# Altium schematic symbol library UltraZOhm_CarrierBoard.SCHLIB: 127 symbols (part 1 of 2)
Pins are listed as number, name and electrical type; pins without a type are passive.

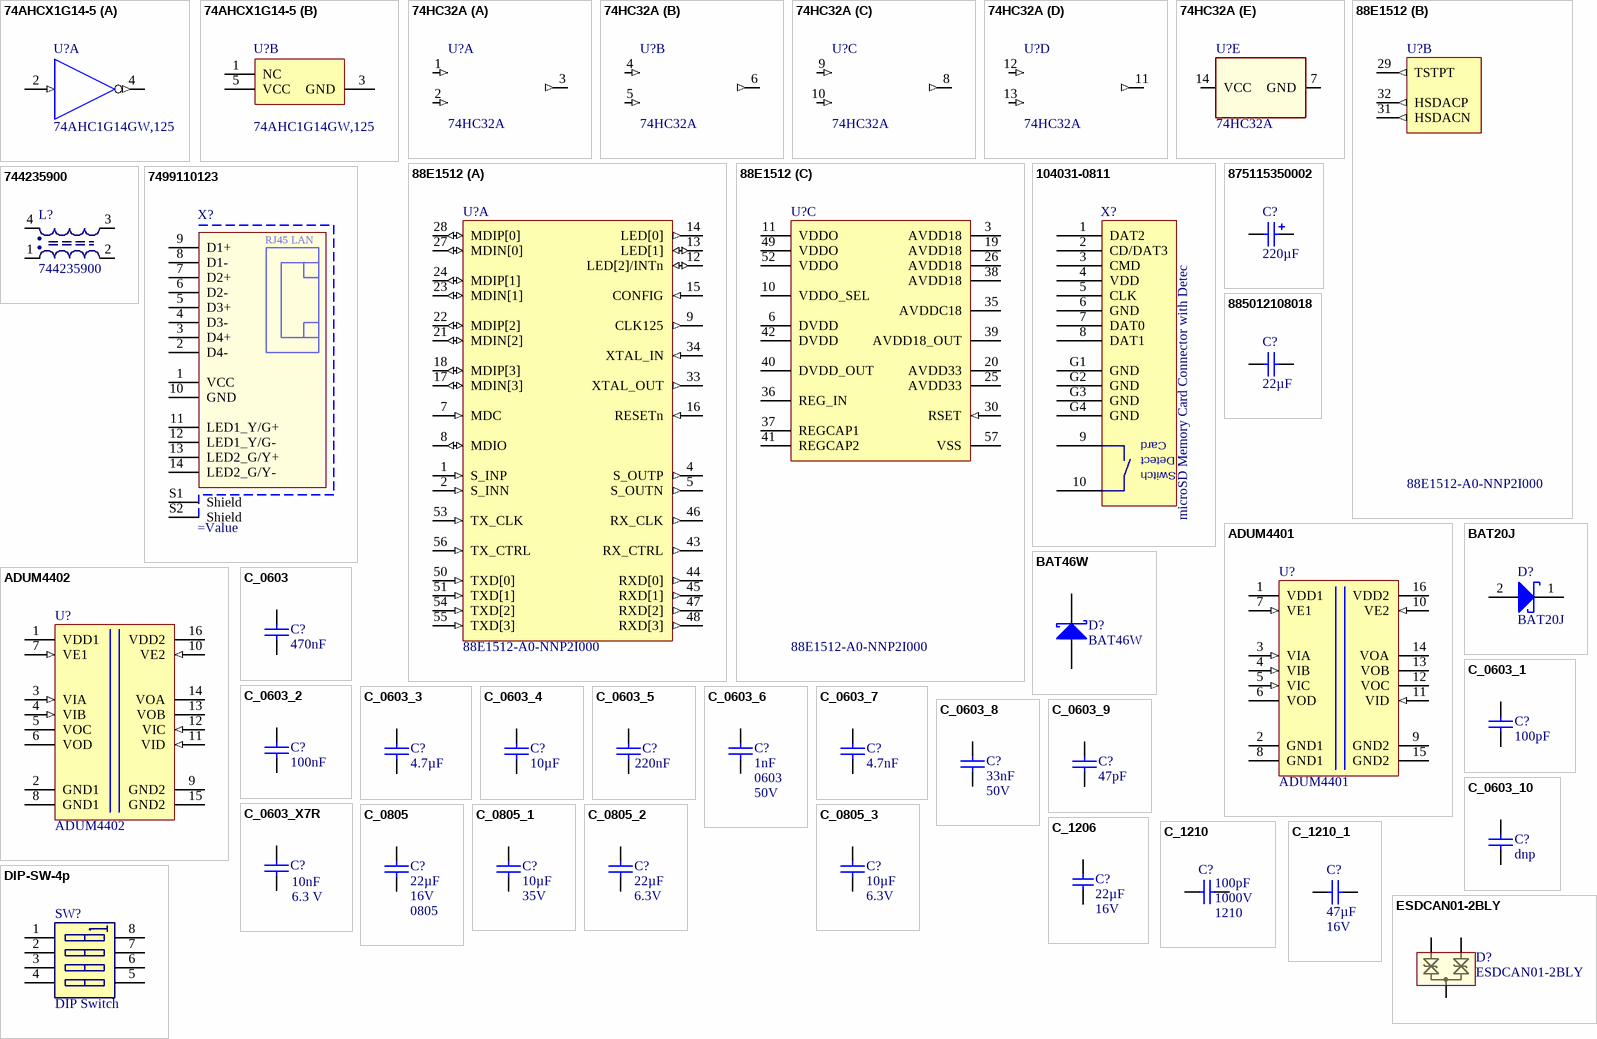
[diagram p0: symbols 74AHCX1G14-5 to ESDCAN01-2BLY]

## 74AHCX1G14-5
designator U?, comment 74AHC1G14GW,125
Inverting Schmitt trigger for 2 V to 5.5 V; MF: Nexperia; Created: 2018_09_06_AGeiger; Supplier 1: Digi-Key; Value: 74AHC1G14GW,125; Supplier Part Number 1: 1727-3149-2-ND; Supplier 2: Mouser; ComponentLink1URL: https://www.mouser.de/datasheet/2/916/74AHC_AHCT1G14-1319577.pdf; ComponentLink1Description: Datasheet; Supplier Part Number 2: 771-74AHC1G14GW-G; Supplier 3: Farnell; Supplier Part Number 3: 2336684; MPN: 74AHC1G14GW,125; Package: TSSOP-5
footprint NXP-SOT353-1_N (TSSOP, 5-Leads, Body 2.25x1.35mm, Pitch 0.65mm, IPC Medium Density)
part A pins: 2 A (in) "data input", 4 ~{Y} (out) "data output"
part B pins: 1 NC "not connected", 3 GND (power) "ground (0 V)", 5 VCC (power) "supply voltage"

## 74HC32A
designator U?
74HC32A Quad 2-input OR gate; MPN: NLV74HC32ADTR2G; MF: ON Semiconductor; Qualification: AEC-Q100; Value: 74HC32A; Created: 2018_11_15_AGeiger; Package: TSSOP-14; Supplier 1: Mouser; Supplier Part Number 1: 863-NLV74HC32ADTR2G; ComponentLink1Description: Datasheet; ComponentLink1URL: https://www.mouser.de/datasheet/2/308/MC74HC32A-D-96986.pdf; Supplier 2: Digi-Key; Supplier Part Number 2: NLV74HC32ADTR2GOSCT-ND
footprint TSSOP14
part A pins: 1 1A (in), 2 1B (in), 3 1Y (out)
part B pins: 4 2A (in), 5 2B (in), 6 2Y (out)
part C pins: 8 3Y (out), 9 3A (in), 10 3B (in)
part D pins: 11 4Y (out), 12 4A (in), 13 4B (in)
part E pins: 7 GND (power), 14 VCC (power)

## 88E1512
designator U?, comment 88E1512-A0-NNP2I000
Ethernet ICs Single-port EEE GE PHY w/SGMII in 56-pin QFN package Industrial Temp; MF: Marvell; Created: 2018_07_17_AGeiger; Package: QFN56; MPN: 88E1512-A0-NNP2I000; Supplier 1: Mouser; Supplier Part Number 1: 348-88E1512A0NNP2I00; ComponentLink1URL: https://www.mouser.de/datasheet/2/912/arvell-phys-transceivers-alaska-88e151x-datasheet--1360912.pdf; Value: 88E1512-A0-NNP2I000; ComponentLink1Description: Datasheet
footprint QFN50P800X800X100-57N
part A pins: 1 S_INP (in), 2 S_INN (in), 4 S_OUTP (out), 5 S_OUTN (out), 7 MDC (in), 8 MDIO (io), 9 CLK125 (out), 12 LED[2]/INTn (io), 13 LED[1] (io), 14 LED[0] (out), 15 CONFIG (in), 16 RESETn (in), 17 MDIN[3] (io), 18 MDIP[3] (io), 21 MDIN[2] (io), 22 MDIP[2] (io), 23 MDIN[1] (io), 24 MDIP[1] (io), 27 MDIN[0] (io), 28 MDIP[0] (io), 33 XTAL_OUT (out), 34 XTAL_IN (in), 43 RX_CTRL (out), 44 RXD[0] (out), 45 RXD[1] (out), 46 RX_CLK (out), 47 RXD[2] (out), 48 RXD[3] (out), 50 TXD[0] (in), 51 TXD[1] (in), 53 TX_CLK (in), 54 TXD[2] (in), 55 TXD[3] (in), 56 TX_CTRL (in)
part B pins: 29 TSTPT (out), 31 HSDACN (out), 32 HSDACP (out)
part C pins: 3 AVDD18 (power), 6 DVDD (power), 10 VDDO_SEL (power), 11 VDDO (power), 19 AVDD18 (power), 20 AVDD33 (power), 25 AVDD33 (power), 26 AVDD18 (power), 30 RSET (in), 35 AVDDC18 (power), 36 REG_IN (power), 37 REGCAP1, 38 AVDD18 (power), 39 AVDD18_OUT (power), 40 DVDD_OUT (power), 41 REGCAP2, 42 DVDD (power), 49 VDDO (power), 52 VDDO (power), 57 VSS (power)

## 104031-0811
designator X?, comment microSD Memory Card Connector with Detec
microSD Memory Card Connector with Detect Switch; MPN: 104031-0811; MF: Molex; Case: microSD; Value: microSD Memory Card Connector with Detec; ComponentLink1URL: https://www.mouser.de/datasheet/2/276/1040310811_MEMORY_CARD_SOCKET-153593.pdf; Supplier 1: Farnell; Supplier Part Number 1: 2466891; Supplier 2: Mouser; Supplier Part Number 2: 538-104031-0811; Supplier Part Number 3: WM6357CT-ND; Supplier 3: Digi-Key; Created: 2018_09_13_AGeiger; ComponentLink1Description: Datasheet
footprint 104031-0811
pins: 1 DAT2, 2 CD/DAT3, 3 CMD, 4 VDD, 5 CLK, 6 GND, 7 DAT0, 8 DAT1, 9 CDSW, 10 CDSW, G1 GND, G2 GND, G3 GND, G4 GND
text: Card; Detect; Switch

## 744235900
designator L?
SMD Shielded Coupled Inductor WE-CNSW, Z=90 Ohm; Impedance: 90 Ohm; MF: Wuerth Elektronik; ComponentLink1URL: http://www.we-online.com; ComponentLink1Description: Manufacturer URL; ComponentLink2Description: Datasheet; PackageReference: WE-CNSW 1812; ComponentLink2URL: http://katalog.we-online.de/pbs/datasheet/744235900.pdf; MPN: 744235900; Value: 744235900; Created: 2018_09_12_AGeiger; Supplier 1: Farnell; Supplier 2: Mouser; Supplier 3: Digi-Key; Supplier Part Number 1: 2249865; Supplier Part Number 2: 710-744235900; Supplier Part Number 3: 732-4223-1-ND
footprint WE-CNSW 1812 (SMD Line Filter, 4-Leads, Body 4.5x3.2mm)
pins: 1, 2, 3, 4

## 7499110123
designator X?
WE-RJ45 LAN Transformer, 10/100/1000 Base-T, THT, Port 1x1, Tab Vertical; MPN: 7499110123; MF: Wuerth Elektronik; PoE: non-PoE; LED (Left-Right): yellow/green-green/yellow; USB: No; Value: 7499110123; ComponentLink1Description: Manufacturer; ComponentLink1URL: http://www.we-online.de; ComponentLink2Description: Datasheet; ComponentLink2URL: http://katalog.we-online.de/pbs/datasheet/7499110123.pdf; Published Date: Dec. 2017; Tab Position: Vertical; Port Number: 1x1; Data Rate: 10/100/1000 Base-T; Operating Temperature: -40 to +85 degC; Mounting Technology: THT; Created: 2018_11_22_AGeiger; Package: RJ45; Supplier 1: Farnell; Supplier 2: Mouser; Supplier 3: Digi-Key; Supplier Part Number 1: 2356117; Supplier Part Number 2: 710-7499110123; Supplier Part Number 3: 732-4958-ND
footprint 7499110123 (LAN Transformer, body 23.6x16.6mm)
pins: 1 VCC, 2 D4-, 3 D4+, 4 D3-, 5 D3+, 6 D2-, 7 D2+, 8 D1-, 9 D1+, 10 GND, 11 LED1_Y/G+, 12 LED1_Y/G-, 13 LED2_G/Y+, 14 LED2_G/Y-, S1 Shield, S2 Shield
text: RJ45 LAN

## 875115350002
designator C?, comment 220µF
WCAP-PSHP Aluminum Polymer Capacitors, D8mm x L7.7mm, 220 uF, 16 VDC; MPN: 875115350002; MF: Wuerth Elektronik; Voltage: 16V; ComponentLink1Description: Manufacturer; ComponentLink1URL: http://www.we-online.de; ComponentLink2Description: Datasheet; ComponentLink2URL: http://katalog.we-online.de/pbs/datasheet/875115350002.pdf; Published Date: Dec. 2017; Size: D8mm x L7.7mm; Value: 220µF; Life Cycle: 2000 h; Operating Temperature: -55 to +105 degC; Created: 2018_11_13_AGeiger; Supplier 1: Farnell; Supplier Part Number 1: 2466695; Supplier 2: Mouser; Supplier Part Number 2: 710-875115350002
footprint WCAP-PSHP_D8mm x L7.7mm
pins: 1 P, 2 N

## 885012108018
designator C?, comment 22µF
WCAP-CSGP Ceramic Capacitors, 1206, X5R, 16V, 22uF; MPN: 885012108018; MF: Wuerth Elektronik; ComponentLink1Description: Manufacturer; ComponentLink1URL: http://www.we-online.de; ComponentLink2Description: Datasheet; ComponentLink2URL: http://katalog.we-online.de/pbs/datasheet/885012108018.pdf; Published Date: Oct. 2017; Voltage: 16V; Operating Temperature: -55 °C to +125 °C; Value: 22µF; Dielectric: X5R; Created: 2018_11_13_AGeiger; Supplier 1: Mouser; Supplier Part Number 1: 710-885012108018; Package: 1206
footprint 1206_3.2x1.6x1.6mm
pins: 1, 2

## ADUM4401
designator U?
5 kV RMS Quad-Channel Digital Isoators; MPN: ADUM4401ARWZ; MF: Analog Devices; Created: 2018_09_13_AGeiger; Value: ADUM4401; Package: SOIC-16 (wide-body); ComponentLink1URL: http://www.analog.com/media/en/technical-documentation/data-sheets/ADuM4400_4401_4402.pdf; ComponentLink1Description: Datasheet; Supplier Part Number 1: 584-ADUM4401ARWZ-R; Supplier 1: Mouser; Supplier Part Number 2: 11R0965; Supplier 2: Newark
footprint ADI-RW-16_L (SOIC, 16-Leads, Body 10.3x7.5mm, Pitch 1.27mm, IPC High Density)
footprint ADI-RW-16_M (SOIC, 16-Leads, Body 10.3x7.5mm, Pitch 1.27mm, IPC Low Density)
footprint ADI-RW-16_N (SOIC, 16-Leads, Body 10.3x7.5mm, Pitch 1.27mm, IPC Medium Density)
pins: 1 VDD1 (power) "Supply Voltage for Isolator Side 1.", 2 GND1 (power) "Ground 1. Ground reference for Isolator Side 1.", 3 VIA (in) "Logic Input A.", 4 VIB (in) "Logic Input B.", 5 VIC (in) "Logic Input C.", 6 VOD (hiz) "Logic Output D.", 7 VE1 (in) "Output Enable 1. Active high logic input. VOD output is enabled when VE1 is high or disconnected. VOD is disabled when VE1 is low. In noisy environments, connecting VE1 to an external logic high or low is recommended.", 8 GND1 (power) "Ground 1. Ground reference for Isolator Side 1.", 9 GND2 (power) "Ground 2. Ground reference for Isolator Side 2.", 10 VE2 (in) "Output Enable 2. Active high logic input. VOA, VOB, and VOC outputs are enabled when VE2 is high or disconnected. VOA, VOB, and VOC outputs are disabled when VE2 is low. In noisy environments, connecting VE2 to an external (See Datasheet)", 11 VID (in) "Logic Input D.", 12 VOC (hiz) "Logic Output C.", 13 VOB (hiz) "Logic Output B.", 14 VOA (hiz) "Logic Output A.", 15 GND2 (power) "Ground 2. Ground reference for Isolator Side 2.", 16 VDD2 (power) "Supply Voltage for Isolator Side 2."

## ADUM4402
designator U?
5 kV RMS Quad-Channel Digital Isolators; MPN: ADUM4402WARWZ; MF: Analog Devices; Created: 2018_09_17_AGeiger; Supplier 1: Mouser; Supplier Part Number 1: 584-ADUM4402WARWZ; ComponentLink1URL: https://www.mouser.de/datasheet/2/609/ADuM4400W_4401W_4402W-879095.pdf; ComponentLink1Description: Datasheet; Package: SOIC-16 (wide-body); Value: ADUM4402
footprint ADI-RW-16_L (SOIC, 16-Leads, Body 10.3x7.5mm, Pitch 1.27mm, IPC High Density)
footprint ADI-RW-16_M (SOIC, 16-Leads, Body 10.3x7.5mm, Pitch 1.27mm, IPC Low Density)
footprint ADI-RW-16_N (SOIC, 16-Leads, Body 10.3x7.5mm, Pitch 1.27mm, IPC Medium Density)
pins: 1 VDD1 (power) "Supply Voltage for Isolator Side 1.", 2 GND1 (power) "Ground 1. Ground reference for Isolator Side 1.", 3 VIA (in) "Logic Input A.", 4 VIB (in) "Logic Input B.", 5 VOC (hiz) "Logic Output C.", 6 VOD (hiz) "Logic Output D.", 7 VE1 (in) "Output Enable 1. Active high logic input. VOC and VOD outputs are enabled when VE1 is high or disconnected. VOC and VOD outputs are disabled when VE1 is low. In noisy environments, connecting VE1 to an external logic high or (See Datasheet)", 8 GND1 (power) "Ground 1. Ground reference for Isolator Side 1.", 9 GND2 (power) "Ground 2. Ground reference for Isolator Side 2.", 10 VE2 (in) "Output Enable 2. Active high logic input. VOA and VOB outputs are enabled when VE2 is high or disconnected. VOA and VOB outputs are disabled when VE2 is low. In noisy environments, connecting VE2 to an external logic high or (See Datasheet)", 11 VID (in) "Logic Input D.", 12 VIC (in) "Logic Input C.", 13 VOB (hiz) "Logic Output B.", 14 VOA (hiz) "Logic Output A.", 15 GND2 (power) "Ground 2. Ground reference for Isolator Side 2.", 16 VDD2 (power) "Supply Voltage for Isolator Side 2."

## BAT20J
designator D?
BAT20J high efficiency switching and ultra low leakage current schottky diode; MPN: BAT20JFILM; MF: ST Microelectronics; Value: BAT20J; Package: SOD-323; Created: 2018_09_13_AGeiger; Supplier 1: Farnell; Supplier Part Number 1: 1467541
footprint SOD-323_STMicroelectronics (SOD, 2-Leads, Body 1.7x1.25mm)
pins: 1 K, 2 A

## BAT46W
designator D?
Surface Mount Schottky Barrier Diode, 100 V, -55 to 125 degC, 2-Pin SOD123, RoHS, Tape and Reel; MPN: BAT46W-7-F; Manufacturer 1: Diodes; IR@1.5 V: 0.3 uA Max.; V(BR)R: 100 V Min.; VF@10 mA: 0.45 V Max.; CT@1 V: 12 pF Typ.; MF: Diodes Incorporated; ComponentLink1URL: http://www.diodes.com/; ComponentLink3URL: http://diodes.com/datasheets/ds30044.pdf; PackageDescription: 2-Pin SMD, Body 2.7 x 1.55 mm, Height 1.45 mm; ComponentLink2Description: Datasheet; ComponentLink3Description: Package Specification; Mounting Technology: Surface Mount; ComponentLink1Description: Manufacturer URL; RoHS: TRUE; Operating Temperature: -55 to 125 degC; Packing: Tape and Reel; ComponentLink2URL: http://diodes.com/datasheets/ds30044.pdf; DatasheetVersion: Rev. 16-2; Value: BAT46W; Created: 2018_09_06_AGeiger; Package: SOD-123; Supplier Part Number 1: 1858621; Supplier 1: Farnell; Supplier 2: Mouser; Supplier Part Number 2: 621-BAT46W-7-F; Supplier Part Number 3: BAT46W-7FDICT-ND; Supplier 3: Digi-Key; Manufacturer Part Number 1: BAT46W-7-F
footprint DIOD-SOD-123-2_V (SOD-123, 2-Leads, Body 2.85x1.7mm (max), Pitch 3.7mm)
pins: 1 A, 2 K

## C_0603
designator C?, comment 470nF
Capacitor 0603; MPN: C0603C474K4PACTU; Tolerance: ±10%; Voltage: 16V; MF: Kemet; Dielectric: X5R; Value: 470nF; Package: 0603; Created: 2018_09_13_AGeiger; Supplier Part Number 1: 2522418; Supplier 1: Farnell
footprint C_0603(1608)100_L (Chip Capacitor, Body 1.6x0.8mm, Height 1.0mm, IPC High Density)
pins: 1, 2
1 alternate drawing of the same symbol

## C_0603_1
designator C?, comment 100pF
Capacitor 0603; MPN: 06035A101JAT4A; Tolerance: ±5%; Voltage: 50V; MF: AVX; Dielectric: C0G / NP0; Value: 100pF; Package: 0603; Created: 2018_12_19_AGeiger; Supplier Part Number 1: 499122; Supplier 1: Farnell; Supplier 2: Mouser; Supplier 3: Digi-Key; Supplier Part Number 3: 478-10676-1-ND; Supplier Part Number 2: 581-06035A101JAT4A
footprint C_0603(1608)100_L (Chip Capacitor, Body 1.6x0.8mm, Height 1.0mm, IPC High Density)
pins: 1, 2
1 alternate drawing of the same symbol

## C_0603_2
designator C?, comment 100nF
Capacitor 0603; MPN: MC0603B104K500CT; Tolerance: ±10%; Voltage: 50V; MF: Multicomp; Dielectric: X7R; Value: 100nF; Package: 0603; Created: 2018_09_13_AGeiger; Supplier Part Number 1: 1759122; Supplier 1: Farnell
footprint C_0603(1608)100_L (Chip Capacitor, Body 1.6x0.8mm, Height 1.0mm, IPC High Density)
pins: 1, 2
1 alternate drawing of the same symbol

## C_0603_3
designator C?, comment 4.7µF
Capacitor 0603; MPN: GRT188R61E475KE13D; Tolerance: ±10%; Voltage: 25V; MF: Murata; Dielectric: X5R; Value: 4.7µF; Package: 0603; Created: 2018_09_13_AGeiger; Supplier Part Number 1: 2672159; Supplier 1: Farnell
footprint C_0603(1608)100_L (Chip Capacitor, Body 1.6x0.8mm, Height 1.0mm, IPC High Density)
pins: 1, 2
1 alternate drawing of the same symbol

## C_0603_4
designator C?, comment 10µF
Capacitor 0603; MPN: GRM188R60J106ME47J; Tolerance: ±20%; Voltage: 6.3V; MF: Murata; Dielectric: X5R; Value: 10µF; Package: 0603; Created: 2018_09_13_AGeiger; Supplier Part Number 1: 2611921; Supplier 1: Farnell
footprint C_0603(1608)100_L (Chip Capacitor, Body 1.6x0.8mm, Height 1.0mm, IPC High Density)
pins: 1, 2
1 alternate drawing of the same symbol

## C_0603_5
designator C?, comment 220nF
Capacitor 0603; MPN: 885012206048; Tolerance: ±10%; Voltage: 16V; MF: Wuerth Elektronik; Dielectric: X7R; Value: 220nF; Package: 0603; Created: 2018_09_13_AGeiger; Supplier Part Number 1: 2507331; Supplier 1: Farnell
footprint C_0603(1608)100_L (Chip Capacitor, Body 1.6x0.8mm, Height 1.0mm, IPC High Density)
pins: 1, 2
1 alternate drawing of the same symbol

## C_0603_6
designator C?, comment 1nF  Package: 0603  Voltage: 50V
Capacitor 0603; MPN: 06035A102JAT2A; Tolerance: ±5%; MF: AVX; Dielectric: C0G / NP0; Max Thickness: 1 mm; Value: 1nF; Created: 2018_09_13_AGeiger; Supplier Part Number 1: 317202; Supplier 1: Farnell
footprint C_0603(1608)100_L (Chip Capacitor, Body 1.6x0.8mm, Height 1.0mm, IPC High Density)
pins: 1, 2
1 alternate drawing of the same symbol

## C_0603_7
designator C?, comment 4.7nF
Capacitor 0603; MPN: C1608C0G1H472J080AA; Tolerance: ±5%; Voltage: 50V; MF: TDK; Dielectric: C0G / NP0; Value: 4.7nF; Package: 0603; Created: 2018_09_13_AGeiger; Supplier Part Number 1: 1907312; Supplier 1: Farnell
footprint C_0603(1608)100_L (Chip Capacitor, Body 1.6x0.8mm, Height 1.0mm, IPC High Density)
pins: 1, 2
1 alternate drawing of the same symbol

## C_0603_8
designator C?, comment 33nF  Voltage: 50V
Capacitor 0603; MPN: 885012206092; Tolerance: ±10%; MF: Wuerth Elektronik; Dielectric: X7R; Value: 33nF; Package: 0603; Created: 2019_10_06_AGeiger; Supplier Part Number 1: 2495184; Supplier 1: Farnell
footprint C_0603(1608)100_L (Chip Capacitor, Body 1.6x0.8mm, Height 1.0mm, IPC High Density)
pins: 1, 2
1 alternate drawing of the same symbol

## C_0603_9
designator C?, comment 47pF
Capacitor 0603; MPN: 885012006055; Tolerance: ±5%; Voltage: 50V; MF: Wuerth Elektronik; Dielectric: C0G / NP0; Value: 47pF; Package: 0603; Created: 2018_09_13_AGeiger; Supplier Part Number 1: 2533852; Supplier 1: Farnell
footprint C_0603(1608)100_L (Chip Capacitor, Body 1.6x0.8mm, Height 1.0mm, IPC High Density)
pins: 1, 2
1 alternate drawing of the same symbol

## C_0603_10
designator C?, comment dnp
Capacitor 0603; MPN: MC0603B104K500CT; Tolerance: ±10%; Value: 100nF; Voltage: 50V; MF: Multicomp; Dielectric: X7R; Package: 0603; Created: 2018_09_13_AGeiger; Supplier Part Number 1: 1759122; Supplier 1: Farnell
footprint C_0603(1608)100_L (Chip Capacitor, Body 1.6x0.8mm, Height 1.0mm, IPC High Density)
pins: 1, 2
1 alternate drawing of the same symbol

## C_0603_X7R
designator C?, comment 10nF  Rated Voltage: 6.3 V
CAP 10nF 6.3V ±10% 0603 (1608 Metric) Thickness 1mm SMD; MPN: GRM188R70J103KA01; MF: Murata; Max Thickness: 1 mm; Tolerance: ±10%; Value: 10nF; Created: 2018_09_18_AGeiger; Package: 0603; Supplier 1: Digi-Key; Supplier Part Number 1: 490-9729-1-ND
footprint C_0603_L_HighDensity (Chip Capacitor, Body 1.6x0.8mm, Height 1.0mm, IPC High Density)
pins: 1, 2
1 alternate drawing of the same symbol

## C_0805
designator C?, comment 22µF  Voltage: 16V  Package: 0805
Capacitor 0805; MPN: C2012X5R1C226M125AC; MF: TDK; Dielectric: X5R; Value: 22µF; Created: 2018_09_13_AGeiger; Supplier 1: Farnell; Supplier Part Number 1: 2525135
footprint CAPC0805(2012)145_L (Chip Capacitor, Body 2.0x1.2mm, Height 1.45mm, IPC High Density)
footprint CAPC0805(2012)145_M (Chip Capacitor, Body 2.0x1.2mm, Height 1.45mm, IPC Low Density)
footprint CAPC0805(2012)145_N (Chip Capacitor, Body 2.0x1.2mm, Height 1.45mm, IPC Medium Density)
pins: 1, 2
1 alternate drawing of the same symbol

## C_0805_1
designator C?, comment 10µF  Voltage: 35V
Capacitor 0805; MPN: GRM21BC8YA106KE11L; MF: Murata; Dielectric: X6S; Value: 10µF; Created: 2018_11_13_AGeiger; Supplier 1: Farnell; Supplier Part Number 1: 2611936; Package: 0805; Supplier 2: Mouser; Supplier Part Number 2: 81-GRM21BC8YA106KE1L
footprint CAPC0805(2012)145_L (Chip Capacitor, Body 2.0x1.2mm, Height 1.45mm, IPC High Density)
footprint CAPC0805(2012)145_M (Chip Capacitor, Body 2.0x1.2mm, Height 1.45mm, IPC Low Density)
footprint CAPC0805(2012)145_N (Chip Capacitor, Body 2.0x1.2mm, Height 1.45mm, IPC Medium Density)
pins: 1, 2
1 alternate drawing of the same symbol

## C_0805_2
designator C?, comment 22µF  Voltage: 6.3V
CAP 0805 (2012 Metric) SMD; MPN: C2012X7S1A226M125AC; MF: TDK; Package: 0805; Value: 22µF; Created: 2018_09_13_AGeiger; Supplier 1: Digi-Key; Supplier Part Number 1: 445-14560-6-ND; Supplier Part Number 2: 810-C2012X7S1A226MAC; Supplier 2: Mouser
footprint CAPC0805(2012)145_L (Chip Capacitor, Body 2.0x1.2mm, Height 1.45mm, IPC High Density)
footprint CAPC0805(2012)145_M (Chip Capacitor, Body 2.0x1.2mm, Height 1.45mm, IPC Low Density)
footprint CAPC0805(2012)145_N (Chip Capacitor, Body 2.0x1.2mm, Height 1.45mm, IPC Medium Density)
pins: 1, 2
1 alternate drawing of the same symbol

## C_0805_3
designator C?, comment 10µF  Voltage: 6.3V
CAP 0805 (2012 Metric) SMD; MPN: C2012X7R0J106M125AB; MF: TDK; Technology: SMT; Value: 10µF; Created: 2018_09_13_AGeiger; Supplier 1: Digi-Key; Supplier Part Number 1: 445-7594-6-ND; Supplier Part Number 2: 810-C2012X7R0J106MAB; Supplier 2: Mouser; Package: 0805
footprint CAPC0805(2012)145_L (Chip Capacitor, Body 2.0x1.2mm, Height 1.45mm, IPC High Density)
footprint CAPC0805(2012)145_M (Chip Capacitor, Body 2.0x1.2mm, Height 1.45mm, IPC Low Density)
footprint CAPC0805(2012)145_N (Chip Capacitor, Body 2.0x1.2mm, Height 1.45mm, IPC Medium Density)
pins: 1, 2
1 alternate drawing of the same symbol

## C_1206
designator C?, comment 22µF  Voltage: 16V
Capacitor 1206; MPN: MC1206X226K160CT; Tolerance: 10%; MF: Multicomp; Dielectric: X5R; Package: 1206; Value: 22µF; Created: 2018_06_25_AGeiger; Supplier 1: Farnell; Supplier Part Number 1: 2320923
footprint C_1206
pins: 1, 2

## C_1210
designator C?, comment 100pF  Package: 1210  Voltage: 1000V
Capacitor 1210; MPN: C1210C101KDGACAUTO; Dielectric: C0G / NP0; MF: Kemet; Tolerance: 10%; Created: 2018_11_12_AGeiger; Supplier 1: Farnell; Supplier Part Number 1: 2834664; Value: 100pF
footprint C_1210_N (Chip Capacitor, 2-Leads, Body 3.4x2.7mm, IPC Medium Density)
pins: 1, 2

## C_1210_1
designator C?, comment 47µF  Voltage: 16V
Capacitor 1210; MPN: GRM32EC81C476KE15L; Dielectric: X6S; MF: Murata; Tolerance: 10%; Created: 2018_11_12_AGeiger; Package: 1210; Supplier 1: Farnell; Supplier Part Number 1: 1907527; Value: 47µF
footprint C_1210_N (Chip Capacitor, 2-Leads, Body 3.4x2.7mm, IPC Medium Density)
pins: 1, 2

## DIP-SW-4p
designator SW?, comment DIP Switch
DIP-/SIP Switches 4p SMT 1.27mm; MPN: 1571983-5; MF: TE Connectivity; Created: 2018_11_15_AGeiger; MPN_2: GDH04STR04; Value: DIP Switch; Supplier 1: Farnell; Supplier Part Number 1: 2060778; ComponentLink1URL: http://www.farnell.com/datasheets/1647573.pdf; Supplier Part Number 2: 506-GDH04STR04; Supplier 2: Mouser; Supplier 3: Digi-Key; Supplier Part Number 3: 450-1762-1-ND; ComponentLink1Description: Datasheet
footprint 416131160804 (04p, 1.27mm Pitch, Horizontal, HP Type, SMT, flat Actuator, black, with Tape, T&R)
pins: 1, 2, 3, 4, 5, 6, 7, 8

## ESDCAN01-2BLY
designator D?
Automotive dual-line TVS for CAN bus, 25 V; MF: ST Microelectronics; Created: 2018_09_05_AGeiger; Value: ESDCAN01-2BLY; MPN: ESDCAN01-2BLY; Supplier 1: Farnell; Supplier Part Number 1: 2455736; Supplier Part Number 2: 511-ESDCAN01-2BLY; Supplier Part Number 3: 497-15333-1-ND; Supplier 2: Mouser; Supplier 3: Digi-Key; Package: SOT-23-3; ComponentLink1URL: https://www.mouser.de/datasheet/2/389/esdcan01-2bly-954716.pdf; ComponentLink1Description: Datasheet
footprint SOT-23-3 (3-pin SOT-23, shorter case)
pins: 1, 2, 3

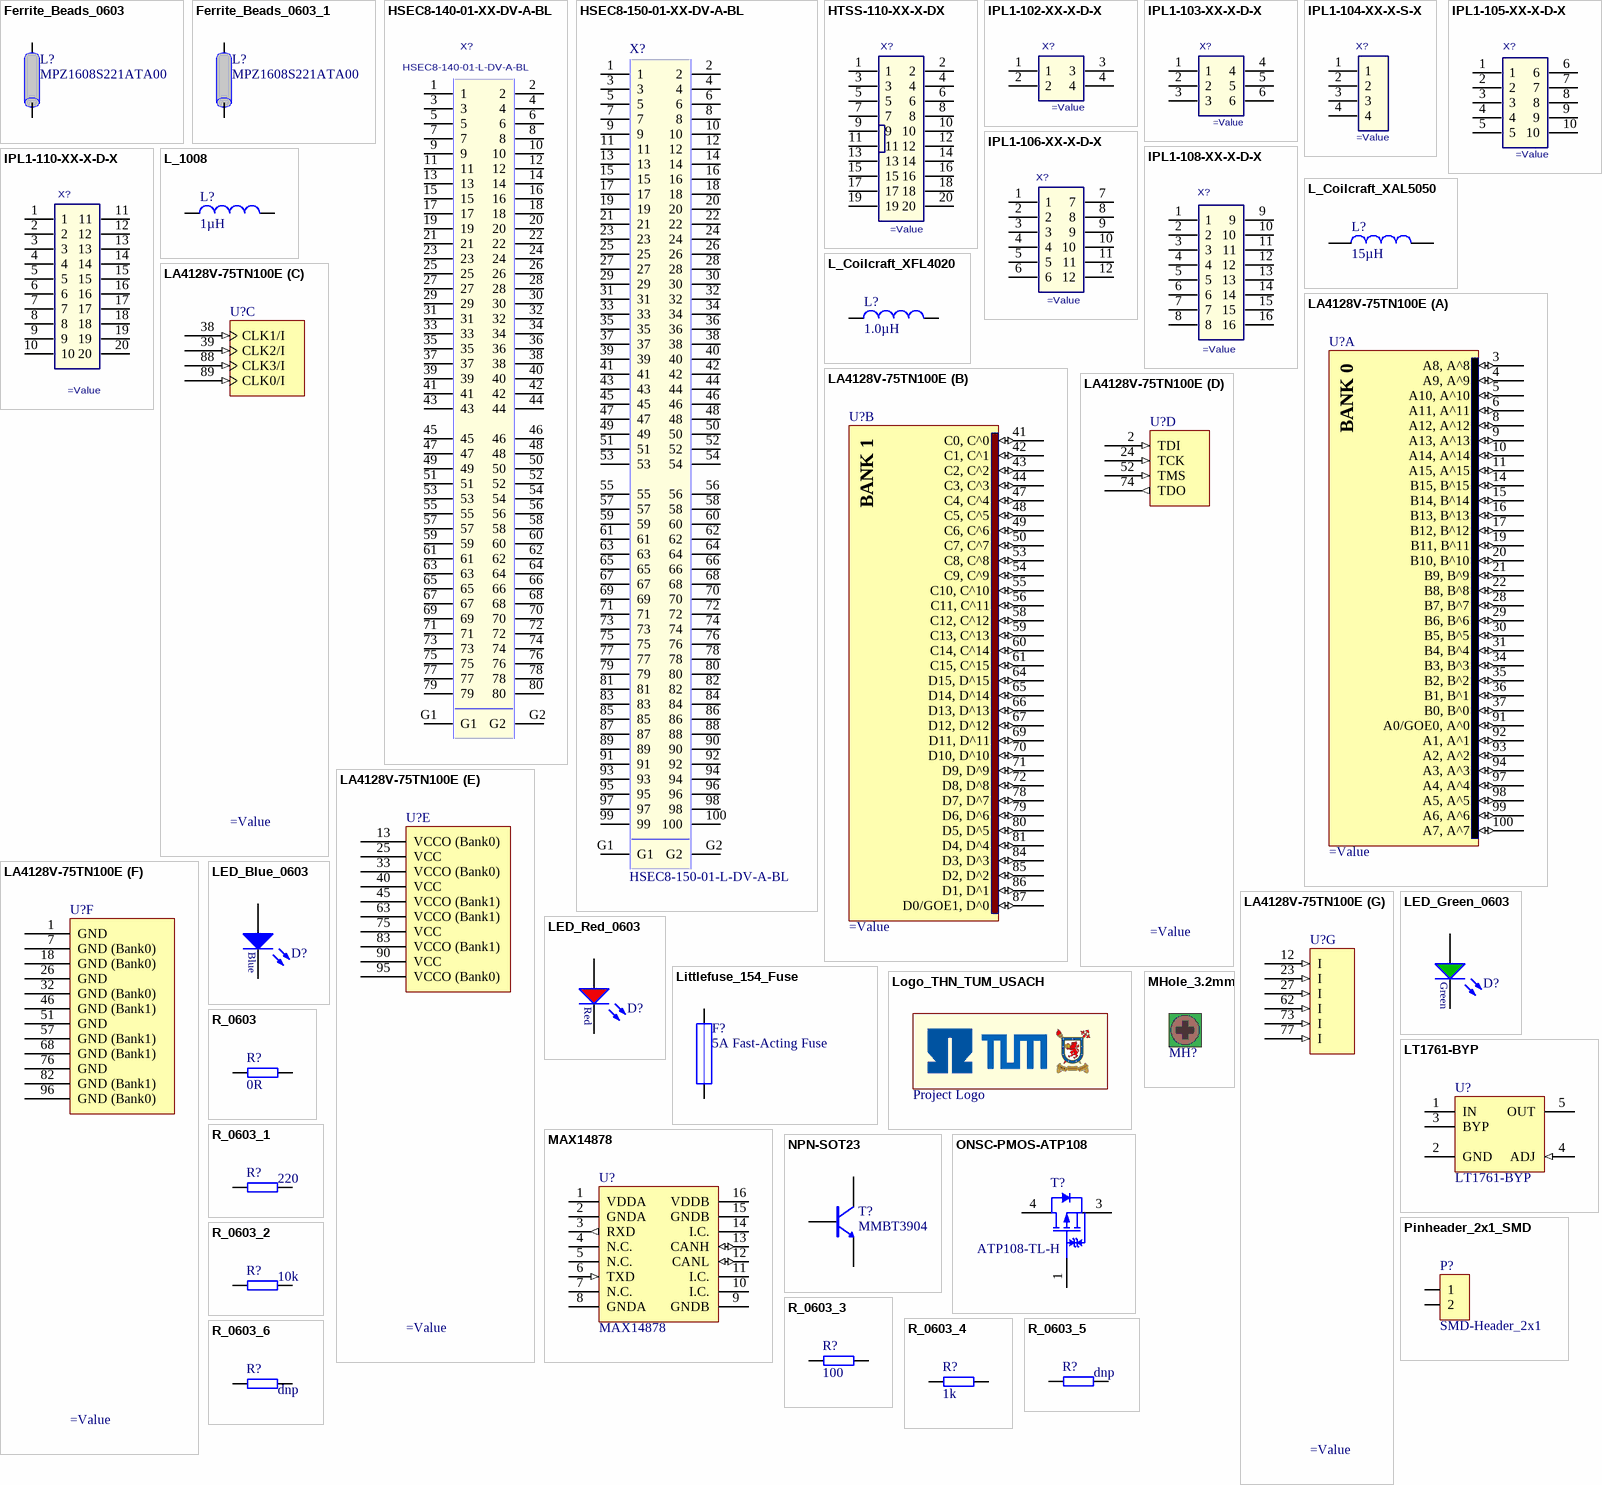
[diagram p1: symbols Ferrite_Beads_0603 to R_0603_6]

## Ferrite_Beads_0603
designator L?, comment MPZ1608S221ATA00
Ferrite Beads 220ohms 2.2A 50mOhms 0603 Ferrite Chip; Value: 220 OHm @ 100MHz; MF: TDK; Package: 0603; MPN: MPZ1608S221ATA00; Created: 2018_07_17_AGeiger; Supplier 1: Farnell; Supplier Part Number 1: 1301677; Supplier 2: Mouser; Supplier Part Number 2: 810-MPZ1608S221ATA00; Supplier 3: Digi-Key; Supplier Part Number 3: 445-1565-1-ND; ComponentLink1URL: https://www.mouser.de/datasheet/2/400/eads_commercial_power_mpz1608_en-923650.pdf; ComponentLink1Description: Datasheet
footprint INDC1608X95N
pins: 1, 2

## Ferrite_Beads_0603_1
designator L?, comment MPZ1608S221ATA00
Ferrite Beads 220ohms 2.2A 50mOhms 0603 Ferrite Chip; Value: 220 OHm @ 100MHz; MF: TDK; Created: 2018_07_17_AGeiger; Package: 0603; MPN: MPZ1608S221ATA00; Supplier 1: Farnell; Supplier Part Number 1: 1301677; Supplier 2: Mouser; Supplier Part Number 2: 810-MPZ1608S221ATA00; Supplier 3: Digi-Key; Supplier Part Number 3: 445-1565-1-ND; ComponentLink1URL: https://www.mouser.de/datasheet/2/400/eads_commercial_power_mpz1608_en-923650.pdf; ComponentLink1Description: Datasheet
footprint INDC1608X95N
pins: 1, 2

## HSEC8-140-01-XX-DV-A-BL
designator X?, comment HSEC8-140-01-L-DV-A-BL
0.8mm High Speed Edge Card Assembly; MF: SAMTEC; Created: 2018_04_10_AGeiger; Value: HSEC8-140-01-L-DV-A-BL; MPN: HSEC8-140-01-L-DV-A-BL; Supplier 1: Farnell; Supplier 2: Mouser; Supplier 3: Digi-Key; Supplier Part Number 1: 2731769; Supplier Part Number 2: 200-HSEC814001LDVABL; Supplier Part Number 3: HSEC8-140-01-L-DV-A-BL-ND
footprint HSEC8-140-01-XX-DV-A-BL
pins: 1, 2, 3, 4, 5, 6, 7, 8, 9, 10, 11, 12, 13, 14, 15, 16, 17, 18, 19, 20, 21, 22, 23, 24, 25, 26, 27, 28, 29, 30, 31, 32, 33, 34, 35, 36, 37, 38, 39, 40, 41, 42, 43, 44, 45, 46, 47, 48, 49, 50, 51, 52, 53, 54, 55, 56, 57, 58, 59, 60, 61, 62, 63, 64, 65, 66, 67, 68, 69, 70, 71, 72, 73, 74, 75, 76, 77, 78, 79, 80, G1, G2

## HSEC8-150-01-XX-DV-A-BL
designator X?, comment HSEC8-150-01-L-DV-A-BL
0.8mm High Speed Edge Card Assembly; MF: SAMTEC; Value: HSEC8-150-01-L-DV-A-BL; Created: 2018_04_10_AGeiger; MPN: HSEC8-150-01-L-DV-A-BL; Supplier 1: Farnell; Supplier 2: Mouser; Supplier 3: Digi-Key; Supplier Part Number 1: 2731836; Supplier Part Number 2: 200-HSEC815001LDVABL; Supplier Part Number 3: HSEC8-150-01-L-DV-A-BL-ND
footprint HSEC8-150-01-XX-DV-A-BL
pins: 1, 2, 3, 4, 5, 6, 7, 8, 9, 10, 11, 12, 13, 14, 15, 16, 17, 18, 19, 20, 21, 22, 23, 24, 25, 26, 27, 28, 29, 30, 31, 32, 33, 34, 35, 36, 37, 38, 39, 40, 41, 42, 43, 44, 45, 46, 47, 48, 49, 50, 51, 52, 53, 54, 55, 56, 57, 58, 59, 60, 61, 62, 63, 64, 65, 66, 67, 68, 69, 70, 71, 72, 73, 74, 75, 76, 77, 78, 79, 80, 81, 82, 83, 84, 85, 86, 87, 88, 89, 90, 91, 92, 93, 94, 95, 96, 97, 98, 99, 100, G1, G2

## HTSS-110-XX-X-DX
designator X?
2.54mm Double Row Terminal Assembly; MF: SAMTEC; Created: 2018_11_25_AGeiger; Value: =MPN; Supplier 1: Farnell; Supplier 2: Mouser; Supplier 3: Digi-Key; Supplier Part Number 1: 1801396; Supplier Part Number 2: 200-HTSS11001LDV; Supplier Part Number 3: SAM9516-ND
footprint HTSS-110-01-L-DV
pins: 1, 2, 3, 4, 5, 6, 7, 8, 9, 10, 11, 12, 13, 14, 15, 16, 17, 18, 19, 20

## IPL1-102-XX-X-D-X
designator X?
2.54mm Double Row Terminal Assembly, Right-Angled; MF: SAMTEC; Created: 2018_05_02_AGeiger; Value: =MPN; Supplier 1: Farnell; Supplier 2: Mouser; Supplier 3: Digi-Key; Supplier Part Number 1: 2667420; Supplier Part Number 2: 200-IPL110201LDK; Supplier Part Number 3: SAM10565-ND
footprint IPL1-102-01-L-D-RA-K
footprint IPL1-102-01-L-D-K
pins: 1, 2, 3, 4

## IPL1-103-XX-X-D-X
designator X?
2.54mm Double Row Terminal Assembly; MF: SAMTEC; Created: 2018_05_02_AGeiger; Value: =MPN; Supplier 1: Farnell; Supplier 2: Mouser; Supplier 3: Digi-Key; Supplier Part Number 1: 2856248; Supplier Part Number 2: 200-IPL110301LDK; Supplier Part Number 3: SAM9594-ND
footprint IPL1-103-01-L-D-RA-K
footprint IPL1-103-01-L-D-K
pins: 1, 2, 3, 4, 5, 6

## IPL1-104-XX-X-S-X
designator X?
2.54mm Single Row Terminal Assembly, Right Angle; MF: SAMTEC; Created: 2018_05_02_AGeiger; Value: =MPN; Supplier 1: Farnell; Supplier 2: Mouser; Supplier 3: Digi-Key; Supplier Part Number 1: 2856253; Supplier Part Number 2: 200-IPL110401LSK; Supplier Part Number 3: SAM9098-ND
footprint IPL1-104-01-L-S-RA-K
footprint IPL1-104-01-L-S-K
pins: 1, 2, 3, 4

## IPL1-105-XX-X-D-X
designator X?
2.54mm Double Row Terminal Assembly; MF: SAMTEC; Created: 2018_05_02_AGeiger; Value: =MPN; Supplier 1: Farnell; Supplier 2: Mouser; Supplier 3: Digi-Key; Supplier Part Number 1: 2308545; Supplier Part Number 2: 200-IPL110501LDK; Supplier Part Number 3: SAM8825-ND
footprint IPL1-105-01-L-D-RA-K
footprint IPL1-105-01-L-D-K
pins: 1, 2, 3, 4, 5, 6, 7, 8, 9, 10

## IPL1-106-XX-X-D-X
designator X?
2.54mm Double Row Terminal Assembly, Right-Angled; MF: SAMTEC; Created: 2018_05_03_AGeiger; Value: =MPN; Supplier 1: Mouser; Supplier 2: Digi-Key; Supplier Part Number 1: 200-IPL110602LDK; Supplier Part Number 2: SAM10584-ND
footprint IPL1-106-01-L-D-RA-K
footprint IPL1-106-01-L-D-K
footprint IPL1-106-02-L-D-K
pins: 1, 2, 3, 4, 5, 6, 7, 8, 9, 10, 11, 12

## IPL1-108-XX-X-D-X
designator X?
2.54mm Double Row Terminal Assembly; MF: SAMTEC; Created: 2018_09_17_AGeiger; Value: =MPN; Supplier 1: Farnell; Supplier 2: Mouser; Supplier 3: Digi-Key; Supplier Part Number 1: 2526789; Supplier Part Number 2: 200-IPL110802LDK; Supplier Part Number 3: SAM9606-ND
footprint IPL1-108-01-L-D-RA-K
footprint IPL1-108-01-L-D-K
footprint IPL1-108-02-L-D-K
pins: 1, 2, 3, 4, 5, 6, 7, 8, 9, 10, 11, 12, 13, 14, 15, 16

## IPL1-110-XX-X-D-X
designator X?
2.54mm Double Row Terminal Assembly; MF: SAMTEC; Created: 2018_05_02_AGeiger; Value: =MPN; Supplier 1: Farnell; Supplier 2: Mouser; Supplier 3: Digi-Key; Supplier Part Number 1: 2779506; Supplier Part Number 2: 200-IPL111002LDK; Supplier Part Number 3: SAM10586-ND
footprint IPL1-110-02-L-D-K
footprint IPL1-110-01-L-D-RA-K
footprint IPL1-110-01-L-D-K
pins: 1, 2, 3, 4, 5, 6, 7, 8, 9, 10, 11, 12, 13, 14, 15, 16, 17, 18, 19, 20

## L_1008
designator L?, comment 1µH
Fixed Inductance SMD 1µH +-20% 0.055Ohm; MPN: 74479787210A; Current: 1.7A; MF: Wuerth Elektronik; Package: 1008; Value: 1µH; ComponentLink1URL: http://www.farnell.com/datasheets/1919854.pdf; Technology: 0.055Ohm; Created: 2018_06_25_AGeiger; Supplier Part Number 1: 2066866; Supplier 1: Farnell; Supplier 2: Mouser; Supplier Part Number 2: 710-74479787210A; Supplier Part Number 3: 732-3436-1-ND; Supplier 3: Digi-Key; ComponentLink1Description: Datasheet
footprint L_1008
pins: 1, 2

## L_Coilcraft_XAL5050
designator L?, comment 15µH
Power Inductor 15µH 20% 3.9A 76.7mOhm; MPN: XAL5050-153MEC; MF: Coilcraft; ComponentLink1Description: Manufacturer; ComponentLink1URL: https://www.coilcraft.com/xal50xx.cfm; ComponentLink2Description: Datasheet; ComponentLink2URL: https://www.coilcraft.com/pdfs/xal50xx.pdf; Value: 15µH; Size: 5.68x5.48mm x 5.1mm; Created: 2018_09_20_AGeiger; Supplier 1: Mouser; Supplier Part Number 1: 994-XAL5050-153MEC
footprint COIL-XAL5050 (SMD, 2-Leads, Body 5.68x5.48mm, Pitch 3.31mm)
pins: 1, 2

## L_Coilcraft_XFL4020
designator L?, comment 1.0µH
Fixed Inductors 1uH 20% 11A 11.9mOhms AEC-Q200; MPN: XFL4020-102MEB; MF: Coilcraft; Created: 2018_09_18_AGeiger; Supplier 1: Mouser; Supplier Part Number 1: 994-XFL4020-102MEB; ComponentLink1URL: https://www.mouser.com/ds/2/597/xfl4020-270756.pdf; Value: 1.0µH; ComponentLink1Description: Datasheet
footprint COIL-XFL4020_V (SMD, 2-Leads, Body 4x4mm, Pitch 2.37mm)
pins: 1, 2

## LA4128V-75TN100E
designator U?
ispMACH 4064 SuperFAST High Density PLD, 3.3 V, 64 User I/Os, 100-Pin TQFP, 7.5 ns, Automotive Grade, Pb-Free; MPN: LA4128V-75TN100E; MF: Lattice; Value: LA4128V-75TN100E; ComponentLink1Description: Manufacturer URL; ComponentLink1URL: http://www.latticesemi.com/; ComponentLink2Description: Datasheet; ComponentLink2URL: http://www.latticesemi.com/dynamic/view_document.cfm?document_id=3646; Package: TQFP100; Supplier 1: Mouser; Supplier Part Number 1: 842-LA4128V75TN100E; Created: 2018_06_29_AGeiger; Supplier Part Number 2: LA4128V-75TN100E-ND; Supplier 2: Digi-Key
footprint TQFP100_N (Thin QFP, 100-Leads, Body 14x14mm, Pitch 0.5mm, IPC Medium Density)
footprint TQFP100_L (Thin QFP, 100-Leads, Body 14x14mm, Pitch 0.5mm, IPC High Density)
footprint TQFP100_M (Thin QFP, 100-Leads, Body 14x14mm, Pitch 0.5mm, IPC Low Density)
part A pins: 3 A8, A^8 (io) "General purpose I/O.", 4 A9, A^9 (io) "General purpose I/O.", 5 A10, A^10 (io) "General purpose I/O.", 6 A11, A^11 (io) "General purpose I/O.", 8 A12, A^12 (io) "General purpose I/O.", 9 A13, A^13 (io) "General purpose I/O.", 10 A14, A^14 (io) "General purpose I/O.", 11 A15, A^15 (io) "General purpose I/O.", 14 B15, B^15 (io) "General purpose I/O.", 15 B14, B^14 (io) "General purpose I/O.", 16 B13, B^13 (io) "General purpose I/O.", 17 B12, B^12 (io) "General purpose I/O.", 19 B11, B^11 (io) "General purpose I/O.", 20 B10, B^10 (io) "General purpose I/O.", 21 B9, B^9 (io) "General purpose I/O.", 22 B8, B^8 (io) "General purpose I/O.", 28 B7, B^7 (io) "General purpose I/O.", 29 B6, B^6 (io) "General purpose I/O.", 30 B5, B^5 (io) "General purpose I/O.", 31 B4, B^4 (io) "General purpose I/O.", 34 B3, B^3 (io) "General purpose I/O.", 35 B2, B^2 (io) "General purpose I/O.", 36 B1, B^1 (io) "General purpose I/O.", 37 B0, B^0 (io) "General purpose I/O.", 91 A0/GOE0, A^0 (io) "Either Global Output Enable Input or general I/O.", 92 A1, A^1 (io) "General purpose I/O.", 93 A2, A^2 (io) "General purpose I/O.", 94 A3, A^3 (io) "General purpose I/O.", 97 A4, A^4 (io) "General purpose I/O.", 98 A5, A^5 (io) "General purpose I/O.", 99 A6, A^6 (io) "General purpose I/O.", 100 A7, A^7 (io) "General purpose I/O."
part B pins: 41 C0, C^0 (io) "General purpose I/O.", 42 C1, C^1 (io) "General purpose I/O.", 43 C2, C^2 (io) "General purpose I/O.", 44 C3, C^3 (io) "General purpose I/O.", 47 C4, C^4 (io) "General purpose I/O.", 48 C5, C^5 (io) "General purpose I/O.", 49 C6, C^6 (io) "General purpose I/O.", 50 C7, C^7 (io) "General purpose I/O.", 53 C8, C^8 (io) "General purpose I/O.", 54 C9, C^9 (io) "General purpose I/O.", 55 C10, C^10 (io) "General purpose I/O.", 56 C11, C^11 (io) "General purpose I/O.", 58 C12, C^12 (io) "General purpose I/O.", 59 C13, C^13 (io) "General purpose I/O.", 60 C14, C^14 (io) "General purpose I/O.", 61 C15, C^15 (io) "General purpose I/O.", 64 D15, D^15 (io) "General purpose I/O.", 65 D14, D^14 (io) "General purpose I/O.", 66 D13, D^13 (io) "General purpose I/O.", 67 D12, D^12 (io) "General purpose I/O.", 69 D11, D^11 (io) "General purpose I/O.", 70 D10, D^10 (io) "General purpose I/O.", 71 D9, D^9 (io) "General purpose I/O.", 72 D8, D^8 (io) "General purpose I/O.", 78 D7, D^7 (io) "General purpose I/O.", 79 D6, D^6 (io) "General purpose I/O.", 80 D5, D^5 (io) "General purpose I/O.", 81 D4, D^4 (io) "General purpose I/O.", 84 D3, D^3 (io) "General purpose I/O.", 85 D2, D^2 (io) "General purpose I/O.", 86 D1, D^1 (io) "General purpose I/O.", 87 D0/GOE1, D^0 (io) "Either Global Output Enable Input or general I/O."
part C pins: 38 CLK1/I (in) "Either CLK input or input.", 39 CLK2/I (in) "Either CLK input or input.", 88 CLK3/I (in) "Either CLK input or input.", 89 CLK0/I (in) "Either CLK input or input."
part D pins: 2 TDI (in) "Test Data Input. Loads data into device using 1149.1 state machine.", 24 TCK (in) "Test Clock Input for 1149.1 state machine.", 52 TMS (in) "Test Mode Select Input to control 1149.1 state machine.", 74 TDO (out) "Test Data Output. Shifts data out of device using 1149.1."
part E pins: 13 VCCO (Bank0) (power) "Power supply pin for I/O bank.", 25 VCC (power) "Power supply for logic core and JTAG port.", 33 VCCO (Bank0) (power) "Power supply pin for I/O bank.", 40 VCC (power) "Power supply for logic core and JTAG port.", 45 VCCO (Bank1) (power) "Power supply pin for I/O bank.", 63 VCCO (Bank1) (power) "Power supply pin for I/O bank.", 75 VCC (power) "Power supply for logic core and JTAG port.", 83 VCCO (Bank1) (power) "Power supply pin for I/O bank.", 90 VCC (power) "Power supply for logic core and JTAG port.", 95 VCCO (Bank0) (power) "Power supply pin for I/O bank."
part F pins: 1 GND (power) "Ground", 7 GND (Bank0) (power) "I/O Ground", 18 GND (Bank0) (power) "I/O Ground", 26 GND (power) "Ground", 32 GND (Bank0) (power) "I/O Ground", 46 GND (Bank1) (power) "I/O Ground", 51 GND (power) "Ground", 57 GND (Bank1) (power) "I/O Ground", 68 GND (Bank1) (power) "I/O Ground", 76 GND (power) "Ground", 82 GND (Bank1) (power) "I/O Ground", 96 GND (Bank0) (power) "I/O Ground"
part G pins: 12 I (in) "Input Signal Pin.", 23 I (in) "Input Signal Pin.", 27 I (in) "Input Signal Pin.", 62 I (in) "Input Signal Pin.", 73 I (in) "Input Signal Pin.", 77 I (in) "Input Signal Pin."
part A text: BANK 0
part B text: BANK 1

## LED_Blue_0603
designator D?, comment 150060BS75000  (value not drawn)
WL-SMCW SMD Mono-color Chip LED Waterclear, size 0603, Blue, 3.2 V, 140°; Forward Voltage: 3.2 V; Luminous Intensity: 145 mcd; Peak Wavelength: 465 nm; Dominant Wavelength: 470 nm; MF: Wuerth Elektronik; Published Date: Sep. 2017; ComponentLink1Description: Manufacturer; ComponentLink1URL: http://www.we-online.de; ComponentLink2Description: Datasheet; ComponentLink2URL: http://katalog.we-online.com/led/datasheet/150060BS75000.pdf; Size: 0603; Viewing Angle: 140°; Emitting Color: Blue; Value: 150060BS75000; Created: 2018_09_06_AGeiger; MPN: 150060BS75000; Package: 0603; Supplier 1: Farnell; Supplier Part Number 1: 2322069; Supplier 2: Mouser; Supplier Part Number 2: 710-150060BS75000; Supplier 3: Digi-Key; Supplier Part Number 3: 732-4966-1-ND
footprint WL-SMCW_0603
pins: 1 K, 2 A

## LED_Green_0603
designator D?, comment 150060GS75000  (value not drawn)
WL-SMCW SMD Mono-color Chip LED Waterclear, size 0603, Green, 3.2 V, 140°; Forward Voltage: 3.2 V; Luminous Intensity: 430 mcd; Peak Wavelength: 515 nm; Dominant Wavelength: 520 nm; MF: Wuerth Elektronik; Published Date: Sep. 2017; ComponentLink1Description: Manufacturer; ComponentLink1URL: http://www.we-online.de; ComponentLink2Description: Datasheet; ComponentLink2URL: http://katalog.we-online.com/led/datasheet/150060GS75000.pdf; MPN: 150060GS75000; Size: 0603; Viewing Angle: 140°; Emitting Color: Green; Value: 150060GS75000; Package: 0603; Created: 2018_09_06_AGeiger; Supplier 1: Farnell; Supplier Part Number 1: 2322070; Supplier 2: Mouser; Supplier Part Number 2: 710-150060GS75000; Supplier 3: Digi-Key; Supplier Part Number 3: 732-4971-1-ND
footprint WL-SMCW_0603
pins: 1 K, 2 A

## LED_Red_0603
designator D?, comment 150060RS75000  (value not drawn)
WL-SMCW SMD Mono-color Chip LED Waterclear, size 0603, Red, 2 V, 140°; Forward Voltage: 2 V; Luminous Intensity: 250 mcd; Peak Wavelength: 630 nm; Dominant Wavelength: 625 nm; MF: Wuerth Elektronik; Published Date: Sep. 2017; ComponentLink1Description: Manufacturer; ComponentLink1URL: http://www.we-online.de; ComponentLink2Description: Datasheet; ComponentLink2URL: http://katalog.we-online.com/led/datasheet/150060RS75000.pdf; Size: 0603; Viewing Angle: 140°; Emitting Color: Red; Value: 150060RS75000; Created: 2018_09_06_AGeiger; MPN: 150060RS75000; Package: 0603; Supplier 1: Farnell; Supplier Part Number 1: 2322071; Supplier 2: Mouser; Supplier Part Number 2: 710-150060RS75000; Supplier 3: Digi-Key; Supplier Part Number 3: 732-4978-1-ND
footprint WL-SMCW_0603
pins: 1 K, 2 A

## Littlefuse_154_Fuse
designator F?, comment 5A Fast-Acting Fuse
SMD Fuse 154 Series OMNI-BLOK Fuse and Holder Assembly; MPN: 0154005.DR; MF: Littlefuse; ComponentLink1Describtion: Datasheet; Created: 2018_11_07_AGeiger; ComponentLink1URL: https://www.littelfuse.com/~/media/electronics/datasheets/fuses/littelfuse_fuse_154_154t_154l_154tl_datasheet.pdf.pdf; Package: EIA RS–481–2; HelpURL: https://www.littelfuse.de/products/fuse-blocks-fuseholders-and-fuse-accessories/fuse-blocks/154.aspx; Value: 5A Fast-Acting Fuse; Supplier Part Number 1: 9943668; Supplier 1: Farnell; Supplier Part Number 2: 576-0154005.DR; Supplier 2: Mouser
footprint LITTLEFUSE_154
pins: 1, 2

## Logo_THN_TUM_USACH
designator LOGO?, comment Project Logo  (no BOM)
Logo of THN TUM USACH; Created: 2020-01-08_Thilo_Wendt
footprint Logo_Partners_1 (THN, TUM and USACH Logo)
footprint Logo_Partners_2 (USACH, THN and TUM Logo)

## LT1761-BYP
designator U?
LDO Voltage Regulator, Adjustable, 1.8V to 20V in, 300mV drop, 1.22V to 20V/0.1A out, TSOT-23-5; MPN: LT1761ES5-BYP#TRMPBF; MF: Linear Technology; Supplier Part Number 1: 1663782; Supplier 1: Farnell; Value: LT1761-BYP; Created: 2018_09_13_AGeiger; Package: SOT23-5; ComponentLink1Description: Datasheet; ComponentLink1URL: http://www.farnell.com/datasheets/1563033.pdf
footprint SOT23-5_L (SOT23, 5-Leads, Body 2.9x1.6mm, Pitch 0.95mm, Lead Span 2.8mm, IPC High Density)
footprint SOT23-5_M (SOT23, 5-Leads, Body 2.9x1.6mm, Pitch 0.95mm, Lead Span 2.8mm, IPC Low Density)
footprint SOT23-5_N (SOT23, 5-Leads, Body 2.9x1.6mm, Pitch 0.95mm, Lead Span 2.8mm, IPC Medium Density)
pins: 1 IN (power), 2 GND (power), 3 BYP, 4 ADJ (in), 5 OUT (power)

## MAX14878
designator U?
5kV  Isolated CAN Transceivers; MPN: MAX14878AWE+; MF: Maxim Integrated; Created: 2018_09_05_AGeiger; Value: MAX14878; Package: SOIC-16 (wide-body); ComponentLink1URL: https://www.mouser.de/datasheet/2/256/MAX14878-MAX14880-1146963.pdf; Supplier Part Number 2: 700-MAX14878AWE+; Supplier 2: Mouser; Supplier Part Number 1: 2792798; Supplier 1: Farnell; Supplier Part Number 3: MAX14878AWE+-ND; Supplier 3: Digi-Key; ComponentLink1Description: Datasheet
footprint SOIC-16_wide-body (SOIC, 16-Leads, Body 10.5x7.6mm, Pitch 1.27mm, IPC Low Density)
pins: 1 VDDA (power) "Power Supply Input for the Controller Side/A-Side. Bypass VDDA to GNDA with 0.1μF capacitor as close to the device as possible.", 2 GNDA (power), 3 RXD (out), 4 N.C. "No Connection. Not internally connected. Connect to GNDA, VDDA, or leave unconnected.", 5 N.C. "No Connection. Not internally connected. Connect to GNDA, VDDA, or leave unconnected.", 6 TXD (in), 7 N.C. "No Connection. Not internally connected. Connect to GNDA, VDDA, or leave unconnected.", 8 GNDA (power), 9 GNDB (power), 10 I.C. "Internally Connected. Connect to GNDB or leave unconnected.", 11 I.C. "Internally Connected. Connect to GNDB, VDDB, or leave unconnected.", 12 CANL (io) "Differential I/O", 13 CANH (io) "Differential I/O", 14 I.C. "Internally Connected. Connect to GNDB or leave unconnected.", 15 GNDB (power), 16 VDDB (power) "Power Supply Input for the CAN Bus Side/B-Side. Bypass VDDB to GNDB with a 0.1μF capacitor as close to the device as possible."

## MHole_3.2mm
designator MH?, comment Mounting Hole 3.2mm  (value not drawn)  (no BOM)
Mount.Hole 3.2mm; Value: Mounting Hole 3.2mm; Created: 2018_07_20_AGeiger
footprint MHole3_2mm

## NPN-SOT23
designator T?, comment MMBT3904
MPN: MMBT3904-7-F; MF: Diodes Incorporated; Package: SOT-23-3; Created: 2018_10_30_AGeiger; Value: MMBT3904; Supplier Part Number 1: 1773602; Supplier 1: Farnell; ComponentLink1URL: https://www.mouser.de/datasheet/2/115/ds30036-41708.pdf; Supplier Part Number 2: 621-MMBT3904-F; Supplier 2: Mouser; Supplier 3: Digi-Key; Supplier Part Number 3: MMBT3904-FDICT-ND; ComponentLink1Description: Datasheet
footprint SOT95P280X145-3N (SOT23, 3-Leads, Body 3,0x3,0mm (max), Pitch 0,95mm, IPC Medium Density)
pins: 1 BASIS, 2 EMITTER, 3 COLLECTOR

## ONSC-PMOS-ATP108
designator T?, comment ATP108-TL-H
P-Channel Power MOSFET, -40 V, -70 A, 10.4 mOhm, Single, 3-Pin ATPAK, Pb-Free, Tape and Reel; MF: On Semiconductor; Coss Typ (pF): 560; Ciss Typ (pF): 3850; VGS(th) Max (V): 2.6; PD Max (W): 60; ID Max (A): 70; Crss Typ (pF): 390; Channel Polarity: P Channel; V(BR)DSS Min (V): 40; VGS Max (V): 20; ComponentLink2URL: http://www.onsemi.com/pub_link/Collateral/ENA1604-D.PDF; ComponentLink2Description: Datasheet; PackageVersion: Rev. O, 02/2012; ComponentLink3URL: http://www.onsemi.com/pub_link/Collateral/369AM.PDF; RoHS: Pb-Free; Configuration: Single; MPN: ATP108-TL-H; PackageDescription: 3-Pin Flange Mount, Body 6.5 x 7.3 mm, Pitch 2.3 mm; Mounting Technology: Surface Mount; ComponentLink1Description: Manufacturer URL; Packing: Tape and Reel; Package: DPAK (Single Gauge) / ATPAK; ComponentLink3Description: Package Specification; ComponentLink1URL: http://www.onsemi.com/; PackageReference: ATPAK-3-369AM; Created: 2018_09_17_AGeiger; Value: ATP108-TL-H; Supplier Part Number 1: 863-ATP108-TL-H; Supplier 1: Mouser; Supplier 2: Farnell; Supplier Part Number 2: 2774816RL; Supplier Part Number 3: ATP108-TL-HOSCT-ND; Supplier 3: Digi-Key
footprint ONSC-ATPAK (DPAK, 3-Leads, Body 7.3x6.5mm, Pitch 2.3mm)
pins: 1 G, 3 S, 4 D

## Pinheader_2x1_SMD
designator P?, comment SMD-Header_2x1
SMD-Header, 2-Pin; Created: 2018_12_05_AGeiger; Value: SMD-Header_2x1
footprint HDR1X2_SMD (SMD Connector; Header; 2 Position)
pins: 1, 2

## R_0603
designator R?, comment 0R
SMD Resistor 0603; MPN: MCMR06X000 PTL; Tolerance: ±0.05Ohm; Voltage: 75V; Power: 100mW; MF: Multicomp; Package: 0603; Value: 0R; Created: 2018_09_06_AGeiger; Supplier 1: Farnell; Supplier Part Number 1: 2073345
footprint R_0603_N (SMD Resistor, Body 1.6x0.8mm, IPC Medium Density)
pins: 1, 2

## R_0603_1
designator R?, comment 220
SMD Resistor 0603; MPN: MCWR06X2200FTL; Tolerance: 1%; Voltage: 50V; Power: 100mW; MF: Multicomp; Package: 0603; Value: 220; Created: 2018_09_06_AGeiger; Supplier 1: Farnell; Supplier Part Number 1: 2447298
footprint R_0603_N (SMD Resistor, Body 1.6x0.8mm, IPC Medium Density)
pins: 1, 2

## R_0603_2
designator R?, comment 10k
SMD Resistor 0603; MPN: MCWR06X1002FTL; Tolerance: 1%; Voltage: 50V; Power: 100mW; MF: Multicomp; Package: 0603; Value: 10k; Created: 2018_09_06_AGeiger; Supplier 1: Farnell; Supplier Part Number 1: 2447230
footprint R_0603_N (SMD Resistor, Body 1.6x0.8mm, IPC Medium Density)
pins: 1, 2

## R_0603_3
designator R?, comment 100
SMD Resistor 0603; MPN: MCWR06X1000FTL; Tolerance: 1%; Voltage: 50V; Power: 100mW; MF: Multicomp; Package: 0603; Value: 100; Created: 2018_09_06_AGeiger; Supplier 1: Farnell; Supplier Part Number 1: 2447227
footprint R_0603_N (SMD Resistor, Body 1.6x0.8mm, IPC Medium Density)
pins: 1, 2

## R_0603_4
designator R?, comment 1k
SMD Resistor 0603; MPN: RC0603FR-071KL; Tolerance: 1%; Voltage: 75V; Power: 100mW; MF: Yageo; Package: 0603; Value: 1k; Created: 2018_09_06_AGeiger; Supplier 1: Farnell; Supplier Part Number 1: 9238484
footprint R_0603_N (SMD Resistor, Body 1.6x0.8mm, IPC Medium Density)
pins: 1, 2

## R_0603_5
designator R?, comment dnp
SMD Resistor 0603; MPN: MCWR06X1002FTL; Value: 10k; Tolerance: 1%; Voltage: 50V; Power: 100mW; MF: Multicomp; Assembly: dnp; Package: 0603; Created: 2018_09_06_AGeiger; Supplier 1: Farnell; Supplier Part Number 1: 2447230
footprint R_0603_N (SMD Resistor, Body 1.6x0.8mm, IPC Medium Density)
pins: 1, 2

## R_0603_6
designator R?, comment dnp
SMD Resistor 0603; MPN: MCMR06X000 PTL; Value: 0R; Tolerance: ±0.05Ohm; Voltage: 75V; Power: 100mW; MF: Multicomp; Assembly: dnp; Package: 0603; Created: 2018_09_06_AGeiger; Supplier 1: Farnell; Supplier Part Number 1: 2073345
footprint R_0603_N (SMD Resistor, Body 1.6x0.8mm, IPC Medium Density)
pins: 1, 2

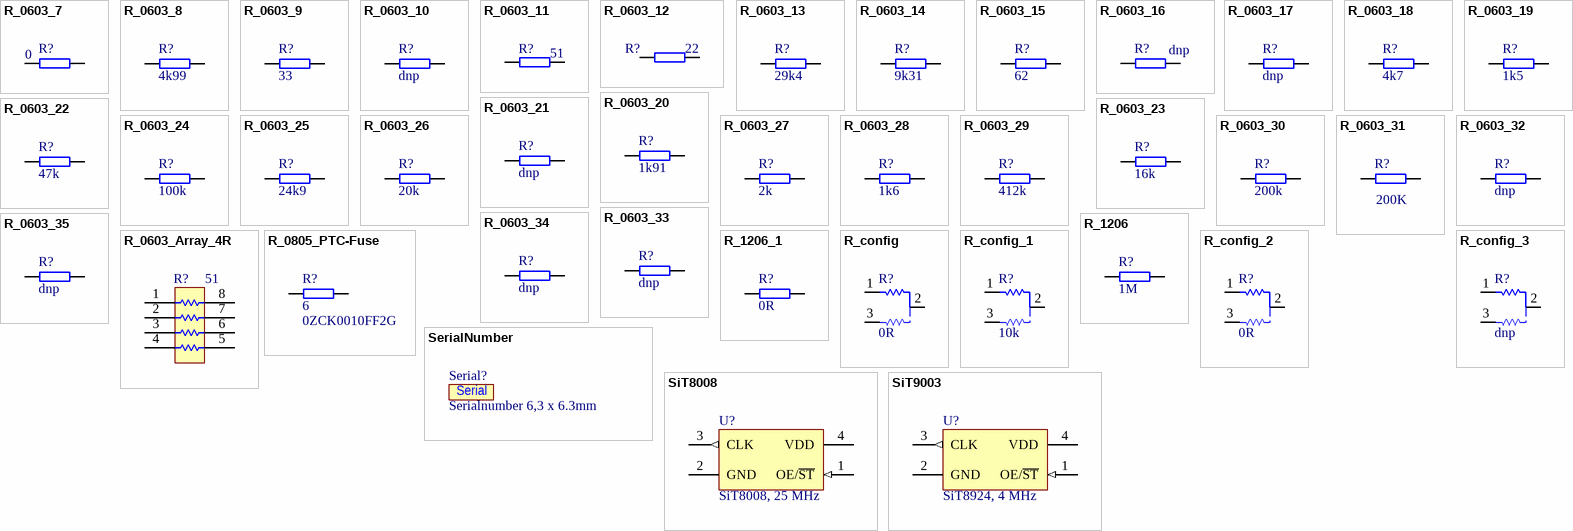
[diagram p2: symbols R_0603_7 to SiT9003]

## R_0603_7
designator R?, comment 0
SMD Resistor 0603; Tolerance: 1%; Voltage: tbd; Package: 0603; Value: 0; Created: 2018_09_06_AGeiger; Power: tbd; Supplier 1: *; Supplier Part Number 1: *
footprint R_0603_N (SMD Resistor, Body 1.6x0.8mm, IPC Medium Density)
pins: 1, 2

## R_0603_8
designator R?, comment 4k99
SMD Resistor 0603; MPN: MCSR06X4991FTL; Tolerance: 1%; Voltage: 75V; Power: 100mW; MF: Multicomp; Package: 0603; Value: 4k99; Created: 2018_09_06_AGeiger; Supplier 1: Farnell; Supplier Part Number 1: 2074271
footprint R_0603_N (SMD Resistor, Body 1.6x0.8mm, IPC Medium Density)
pins: 1, 2

## R_0603_9
designator R?, comment 33
SMD Resistor 0603; MPN: MCWR06X33R0FTL; Tolerance: 1%; Voltage: 50V; Power: 100mW; MF: Multicomp; Package: 0603; Value: 33; Created: 2018_09_06_AGeiger; Supplier 1: Farnell; Supplier Part Number 1: 2447344
footprint R_0603_N (SMD Resistor, Body 1.6x0.8mm, IPC Medium Density)
pins: 1, 2

## R_0603_10
designator R?, comment dnp
SMD Resistor 0603; Value: dnf; Tolerance: tbd; Assembly: dnp; Package: 0603; Created: 2018_09_06_AGeiger; Voltage: tbd; Power: tbd; Supplier 1: tbd; Supplier Part Number 1: tbd; MF: tbd; MPN: tbd
footprint R_0603_N (SMD Resistor, Body 1.6x0.8mm, IPC Medium Density)
pins: 1, 2

## R_0603_11
designator R?, comment 51
SMD Resistor 0603; MPN: MCMR06X51R0FTL; Tolerance: 1%; Voltage: 75V; Power: 100mW; MF: Multicomp; Package: 0603; Value: 51; Created: 2018_09_06_AGeiger; Supplier 1: Farnell; Supplier Part Number 1: 2073529
footprint R_0603_N (SMD Resistor, Body 1.6x0.8mm, IPC Medium Density)
pins: 1, 2

## R_0603_12
designator R?, comment 22
SMD Resistor 0603; MPN: MCWR06X22R0FTL; Tolerance: 1%; Voltage: 50V; Power: 100mW; MF: Multicomp; Package: 0603; Value: 22; Created: 2018_09_06_AGeiger; Supplier 1: Farnell; Supplier Part Number 1: 2447301
footprint R_0603_N (SMD Resistor, Body 1.6x0.8mm, IPC Medium Density)
pins: 1, 2

## R_0603_13
designator R?, comment 29k4
SMD Resistor 0603; MPN: MCWR06X2942FTL; Tolerance: 1%; Voltage: 75V; Power: 100mW; MF: Vishay; Package: 0603; Value: 29k4; Created: 2018_09_06_AGeiger; Supplier 1: Farnell; Supplier Part Number 1: 2694813
footprint R_0603_N (SMD Resistor, Body 1.6x0.8mm, IPC Medium Density)
pins: 1, 2

## R_0603_14
designator R?, comment 9k31
SMD Resistor 0603; MPN: ERJ3EKF9311V; Tolerance: 1%; Voltage: 75V; Power: 100mW; MF: Panasonic; Package: 0603; Value: 9k31; Created: 2018_09_06_AGeiger; Supplier 1: Farnell; Supplier Part Number 1: 2059405
footprint R_0603_N (SMD Resistor, Body 1.6x0.8mm, IPC Medium Density)
pins: 1, 2

## R_0603_15
designator R?, comment 62
SMD Resistor 0603; MPN: MCWR06X62R0FTL; Tolerance: 1%; Voltage: 50V; Power: 100mW; MF: Multicomp; Package: 0603; Value: 62; Created: 2018_09_06_AGeiger; Supplier 1: Farnell; Supplier Part Number 1: 2447415
footprint R_0603_N (SMD Resistor, Body 1.6x0.8mm, IPC Medium Density)
pins: 1, 2

## R_0603_16
designator R?, comment dnp
SMD Resistor 0603; MPN: CRCW0603100KFKEA; Value: 100k; Tolerance: ±1%; Voltage: 75V; Power: 100mW; MF: Vishay; Assembly: dnp; Package: 0603; Created: 2018_09_06_AGeiger; Supplier 1: Farnell; Supplier Part Number 1: 1469649
footprint R_0603_N (SMD Resistor, Body 1.6x0.8mm, IPC Medium Density)
pins: 1, 2

## R_0603_17
designator R?, comment dnp
SMD Resistor 0603; MPN: CR0603-FX-2002ELF; Value: 20k; Tolerance: ±1%; Voltage: 50V; Power: 100mW; MF: Bourns; Assembly: dnp; Package: 0603; Created: 2018_09_06_AGeiger; Supplier 1: Farnell; Supplier Part Number 1: 2333523
footprint R_0603_N (SMD Resistor, Body 1.6x0.8mm, IPC Medium Density)
pins: 1, 2

## R_0603_18
designator R?, comment 4k7
SMD Resistor 0603; MPN: MCWR04X4701FTL; Tolerance: ±1%; Voltage: 50V; Power: 62.5mW; MF: Multicomp; Package: 0603; Value: 4k7; Created: 2018_09_06_AGeiger; Supplier 1: Farnell; Supplier Part Number 1: 2447187
footprint R_0603_N (SMD Resistor, Body 1.6x0.8mm, IPC Medium Density)
pins: 1, 2

## R_0603_19
designator R?, comment 1k5
SMD Resistor 0603; MPN: MCWR06X1501FTL; Tolerance: ±1%; Voltage: 50V; Power: 100mW; MF: Multicomp; Package: 0603; Value: 1k5; Created: 2018_09_06_AGeiger; Supplier 1: Farnell; Supplier Part Number 1: 2447279
footprint R_0603_N (SMD Resistor, Body 1.6x0.8mm, IPC Medium Density)
pins: 1, 2

## R_0603_20
designator R?, comment 1k91
SMD Resistor 0603; MPN: ERA3ARB1911V; Tolerance: ±0.1%; Voltage: 75V; Power: 100mW; MF: Panasonic; Package: 0603; Value: 1k91; Created: 2018_09_06_AGeiger; Supplier 1: Farnell; Supplier Part Number 1: 2094529
footprint R_0603_N (SMD Resistor, Body 1.6x0.8mm, IPC Medium Density)
pins: 1, 2

## R_0603_21
designator R?, comment dnp
SMD Resistor 0603; Value: 0; Tolerance: 1%; Voltage: tbd; Package: 0603; Created: 2018_09_06_AGeiger; Power: tbd; Supplier 1: *; Supplier Part Number 1: *
footprint R_0603_N (SMD Resistor, Body 1.6x0.8mm, IPC Medium Density)
pins: 1, 2

## R_0603_22
designator R?, comment 47k
SMD Resistor 0603; MPN: MCWR04X4702FTL; Tolerance: ±1%; Voltage: 50; Power: 100mW; MF: Multicomp Pro; Package: 0603; Value: 47k; Created: 2018_09_06_AGeiger; Supplier 1: Farnell; Supplier Part Number 1: 2447179
footprint R_0603_N (SMD Resistor, Body 1.6x0.8mm, IPC Medium Density)
pins: 1, 2